# Altium integrated library Maxim Digital Potentiometers.IntLib: 1045 symbols (part 17 of 42)
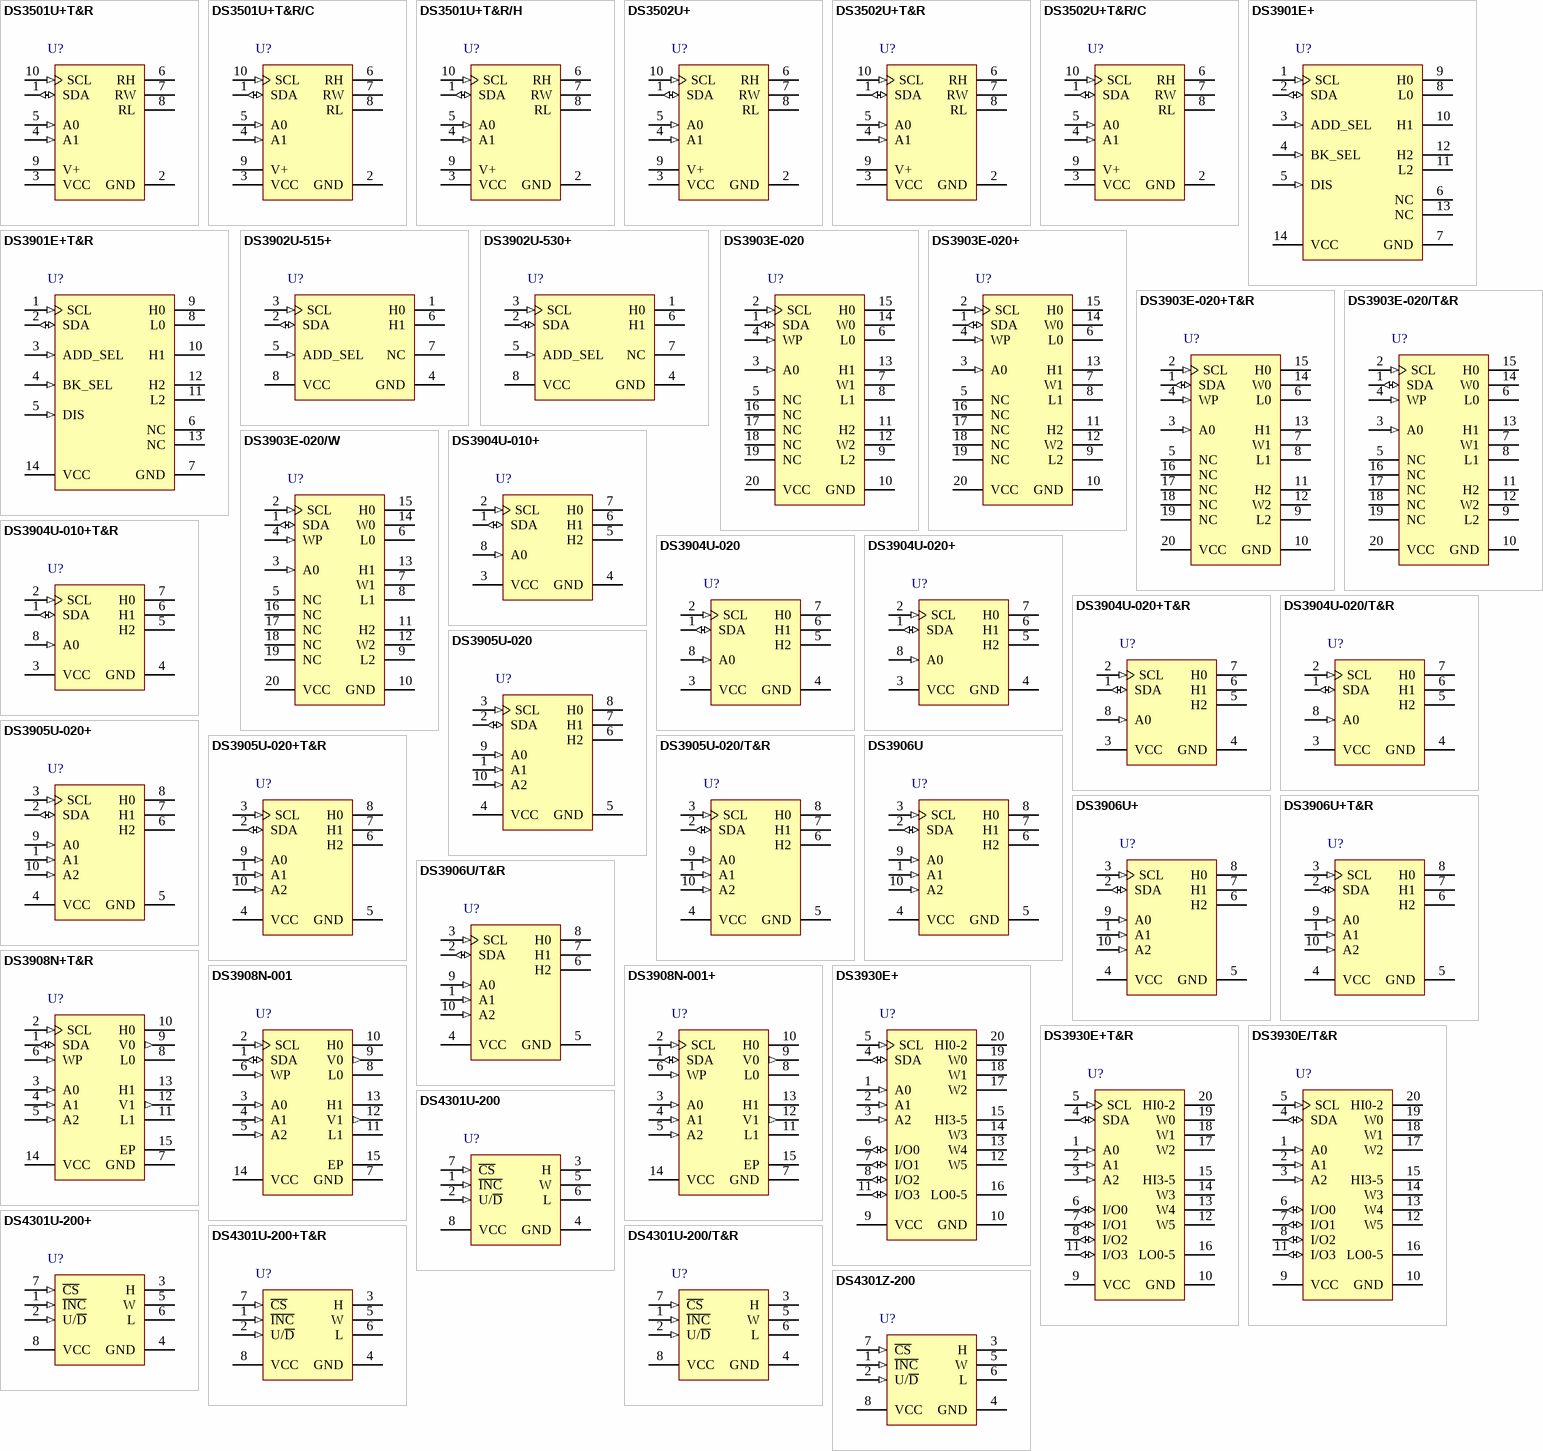
[diagram p45: symbols DS3501U+T&R to DS4301Z-200]

## DS4301U-200
designator U?
Digital Potentiometer with Up/Down Control Interface, Non-Volatile, Linear Taper, 32 Steps, -40 to 85 degC, 8-pin uMAX (U8-1); PartNumber: DS4301U-200; DatasheetVersion: Rev. 0; PackageVersion: Rev. L, 08/2009; PackageReference: U8-1; PackageDescription: 8-Pin Micro-MAX, Thin Shrink Small-Outline (U8-1), Body 3 x 3 mm, Pitch 0.65mm; Supplier 1: Digi-Key; Supplier Part Number 1: DS4301U-200-ND; Supplier 2: Mouser; Supplier Part Number 2: N/A; Control Interface: Up/Down; Features: EEPROM Wiper Memory; Mounting Technology: Surface Mount; Code_JEDEC: MO-187; ComponentLink1Description: Manufacturer URL; ComponentLink1URL: http://www.maximintegrated.com/; ComponentLink2Description: Datasheet; ComponentLink2URL: http://datasheets.maximintegrated.com/en/ds/DS4301.pdf; ComponentLink3Description: Package Specification; ComponentLink3URL: http://pdfserv.maximintegrated.com/package_dwgs/21-0036.PDF
footprint MAXM-U8-1_N (SOP, 8-Leads, Body 3x3mm, Pitch 0.65mm, IPC Medium Density)
footprint MAXM-U8-1_L (SOP, 8-Leads, Body 3x3mm, Pitch 0.65mm, IPC High Density)
footprint MAXM-U8-1_M (SOP, 8-Leads, Body 3x3mm, Pitch 0.65mm, IPC Low Density)
pins: 1 ~{INC} (in) "Increment/Decrement Wiper Control", 2 U/~{D} (in) "Up/Down Control", 3 H "High-Terminal of Potentiometer", 4 GND (power) "Ground", 5 W "Wiper of Potentiometer", 6 L "Low-Terminal of Potentiometer", 7 ~{CS} (in) "Chip Select", 8 VCC (power) "3V or 5V Power Supply"

## DS4301U-200+
designator U?
Digital Potentiometer with Up/Down Control Interface, Non-Volatile, Linear Taper, 32 Steps, -40 to 85 degC, 8-pin uMAX (U8+1), Pb-Free; PartNumber: DS4301U-200+; DatasheetVersion: Rev. 0; PackageVersion: Rev. L, 08/2009; PackageReference: U8+1; PackageDescription: 8-Pin Micro-MAX, Thin Shrink Small-Outline (U8+1), Body 3 x 3 mm, Pitch 0.65 mm; Supplier 1: Digi-Key; Supplier Part Number 1: DS4301U-200+-ND; Supplier 2: Mouser; Supplier Part Number 2: 700-DS4301U-200; Control Interface: Up/Down; Features: EEPROM Wiper Memory; Mounting Technology: Surface Mount; Code_JEDEC: MO-187; ComponentLink1Description: Manufacturer URL; ComponentLink1URL: http://www.maximintegrated.com/; ComponentLink2Description: Datasheet; ComponentLink2URL: http://datasheets.maximintegrated.com/en/ds/DS4301.pdf; ComponentLink3Description: Package Specification; ComponentLink3URL: http://pdfserv.maximintegrated.com/package_dwgs/21-0036.PDF
footprint MAXM-U8+1_N (SOP, 8-Leads, Body 3x3mm, Pitch 0.65mm, IPC Medium Density)
footprint MAXM-U8+1_L (SOP, 8-Leads, Body 3x3mm, Pitch 0.65mm, IPC High Density)
footprint MAXM-U8+1_M (SOP, 8-Leads, Body 3x3mm, Pitch 0.65mm, IPC Low Density)
pins: 1 ~{INC} (in) "Increment/Decrement Wiper Control", 2 U/~{D} (in) "Up/Down Control", 3 H "High-Terminal of Potentiometer", 4 GND (power) "Ground", 5 W "Wiper of Potentiometer", 6 L "Low-Terminal of Potentiometer", 7 ~{CS} (in) "Chip Select", 8 VCC (power) "3V or 5V Power Supply"

## DS4301U-200+T&R
designator U?
Digital Potentiometer with Up/Down Control Interface, Non-Volatile, Linear Taper, 32 Steps, -40 to 85 degC, 8-pin uMAX (U8+1), Pb-Free, Tape and Reel; PartNumber: DS4301U-200+T&R; DatasheetVersion: Rev. 0; PackageVersion: Rev. L, 08/2009; PackageReference: U8+1; PackageDescription: 8-Pin Micro-MAX, Thin Shrink Small-Outline (U8+1), Body 3 x 3 mm, Pitch 0.65 mm; Supplier 1: Digi-Key; Supplier Part Number 1: DS4301U-200+T&R-ND; Supplier 2: Mouser; Supplier Part Number 2: 700-DS4301U-200T&R; Control Interface: Up/Down; Features: EEPROM Wiper Memory; Mounting Technology: Surface Mount; Code_JEDEC: MO-187; ComponentLink1Description: Manufacturer URL; ComponentLink1URL: http://www.maximintegrated.com/; ComponentLink2Description: Datasheet; ComponentLink2URL: http://datasheets.maximintegrated.com/en/ds/DS4301.pdf; ComponentLink3Description: Package Specification; ComponentLink3URL: http://pdfserv.maximintegrated.com/package_dwgs/21-0036.PDF
footprint MAXM-U8+1_N (SOP, 8-Leads, Body 3x3mm, Pitch 0.65mm, IPC Medium Density)
footprint MAXM-U8+1_L (SOP, 8-Leads, Body 3x3mm, Pitch 0.65mm, IPC High Density)
footprint MAXM-U8+1_M (SOP, 8-Leads, Body 3x3mm, Pitch 0.65mm, IPC Low Density)
pins: 1 ~{INC} (in) "Increment/Decrement Wiper Control", 2 U/~{D} (in) "Up/Down Control", 3 H "High-Terminal of Potentiometer", 4 GND (power) "Ground", 5 W "Wiper of Potentiometer", 6 L "Low-Terminal of Potentiometer", 7 ~{CS} (in) "Chip Select", 8 VCC (power) "3V or 5V Power Supply"

## DS4301U-200/T&R
designator U?
Digital Potentiometer with Up/Down Control Interface, Non-Volatile, Linear Taper, 32 Steps, -40 to 85 degC, 8-pin uMAX (U8-1), Tape and Reel; PartNumber: DS4301U-200/T&R; DatasheetVersion: Rev. 0; PackageVersion: Rev. L, 08/2009; PackageReference: U8-1; PackageDescription: 8-Pin Micro-MAX, Thin Shrink Small-Outline (U8-1), Body 3 x 3 mm, Pitch 0.65mm; Supplier 1: Digi-Key; Supplier Part Number 1: DS4301U-200/T&R-ND; Supplier 2: Mouser; Supplier Part Number 2: N/A; Control Interface: Up/Down; Features: EEPROM Wiper Memory; Mounting Technology: Surface Mount; Code_JEDEC: MO-187; ComponentLink1Description: Manufacturer URL; ComponentLink1URL: http://www.maximintegrated.com/; ComponentLink2Description: Datasheet; ComponentLink2URL: http://datasheets.maximintegrated.com/en/ds/DS4301.pdf; ComponentLink3Description: Package Specification; ComponentLink3URL: http://pdfserv.maximintegrated.com/package_dwgs/21-0036.PDF
footprint MAXM-U8-1_N (SOP, 8-Leads, Body 3x3mm, Pitch 0.65mm, IPC Medium Density)
footprint MAXM-U8-1_L (SOP, 8-Leads, Body 3x3mm, Pitch 0.65mm, IPC High Density)
footprint MAXM-U8-1_M (SOP, 8-Leads, Body 3x3mm, Pitch 0.65mm, IPC Low Density)
pins: 1 ~{INC} (in) "Increment/Decrement Wiper Control", 2 U/~{D} (in) "Up/Down Control", 3 H "High-Terminal of Potentiometer", 4 GND (power) "Ground", 5 W "Wiper of Potentiometer", 6 L "Low-Terminal of Potentiometer", 7 ~{CS} (in) "Chip Select", 8 VCC (power) "3V or 5V Power Supply"

## DS4301Z-200
designator U?
Digital Potentiometer with Up/Down Control Interface, Non-Volatile, Linear Taper, 32 Steps, -40 to 85 degC, 8-pin SOIC (S8-2); PartNumber: DS4301Z-200; DatasheetVersion: Rev. 0; PackageVersion: Rev. D, 10/2012; PackageReference: S8-2; PackageDescription: 8-Pin Small-Outline IC, Narrow (0.15in) (S8-2), Body 4.90 x 3.90 mm, Pitch 1.27 mm; Supplier 1: Digi-Key; Supplier Part Number 1: DS4301Z-200-ND; Supplier 2: Mouser; Supplier Part Number 2: N/A; Control Interface: Up/Down; Features: EEPROM Wiper Memory; Mounting Technology: Surface Mount; Code_JEDEC: MS012; ComponentLink1Description: Manufacturer URL; ComponentLink1URL: http://www.maximintegrated.com/; ComponentLink2Description: Datasheet; ComponentLink2URL: http://datasheets.maximintegrated.com/en/ds/DS4301.pdf; ComponentLink3Description: Package Specification; ComponentLink3URL: http://pdfserv.maximintegrated.com/package_dwgs/21-0041.PDF
footprint MAXM-S8-2_N (SOIC, 8-Leads, Body 4.90x3.90mm, Pitch 1.27mm, IPC Medium Density)
footprint MAXM-S8-2_L (SOIC, 8-Leads, Body 4.90x3.90mm, Pitch 1.27mm, IPC High Density)
footprint MAXM-S8-2_M (SOIC, 8-Leads, Body 4.90x3.90mm, Pitch 1.27mm, IPC Low Density)
pins: 1 ~{INC} (in) "Increment/Decrement Wiper Control", 2 U/~{D} (in) "Up/Down Control", 3 H "High-Terminal of Potentiometer", 4 GND (power) "Ground", 5 W "Wiper of Potentiometer", 6 L "Low-Terminal of Potentiometer", 7 ~{CS} (in) "Chip Select", 8 VCC (power) "3V or 5V Power Supply"

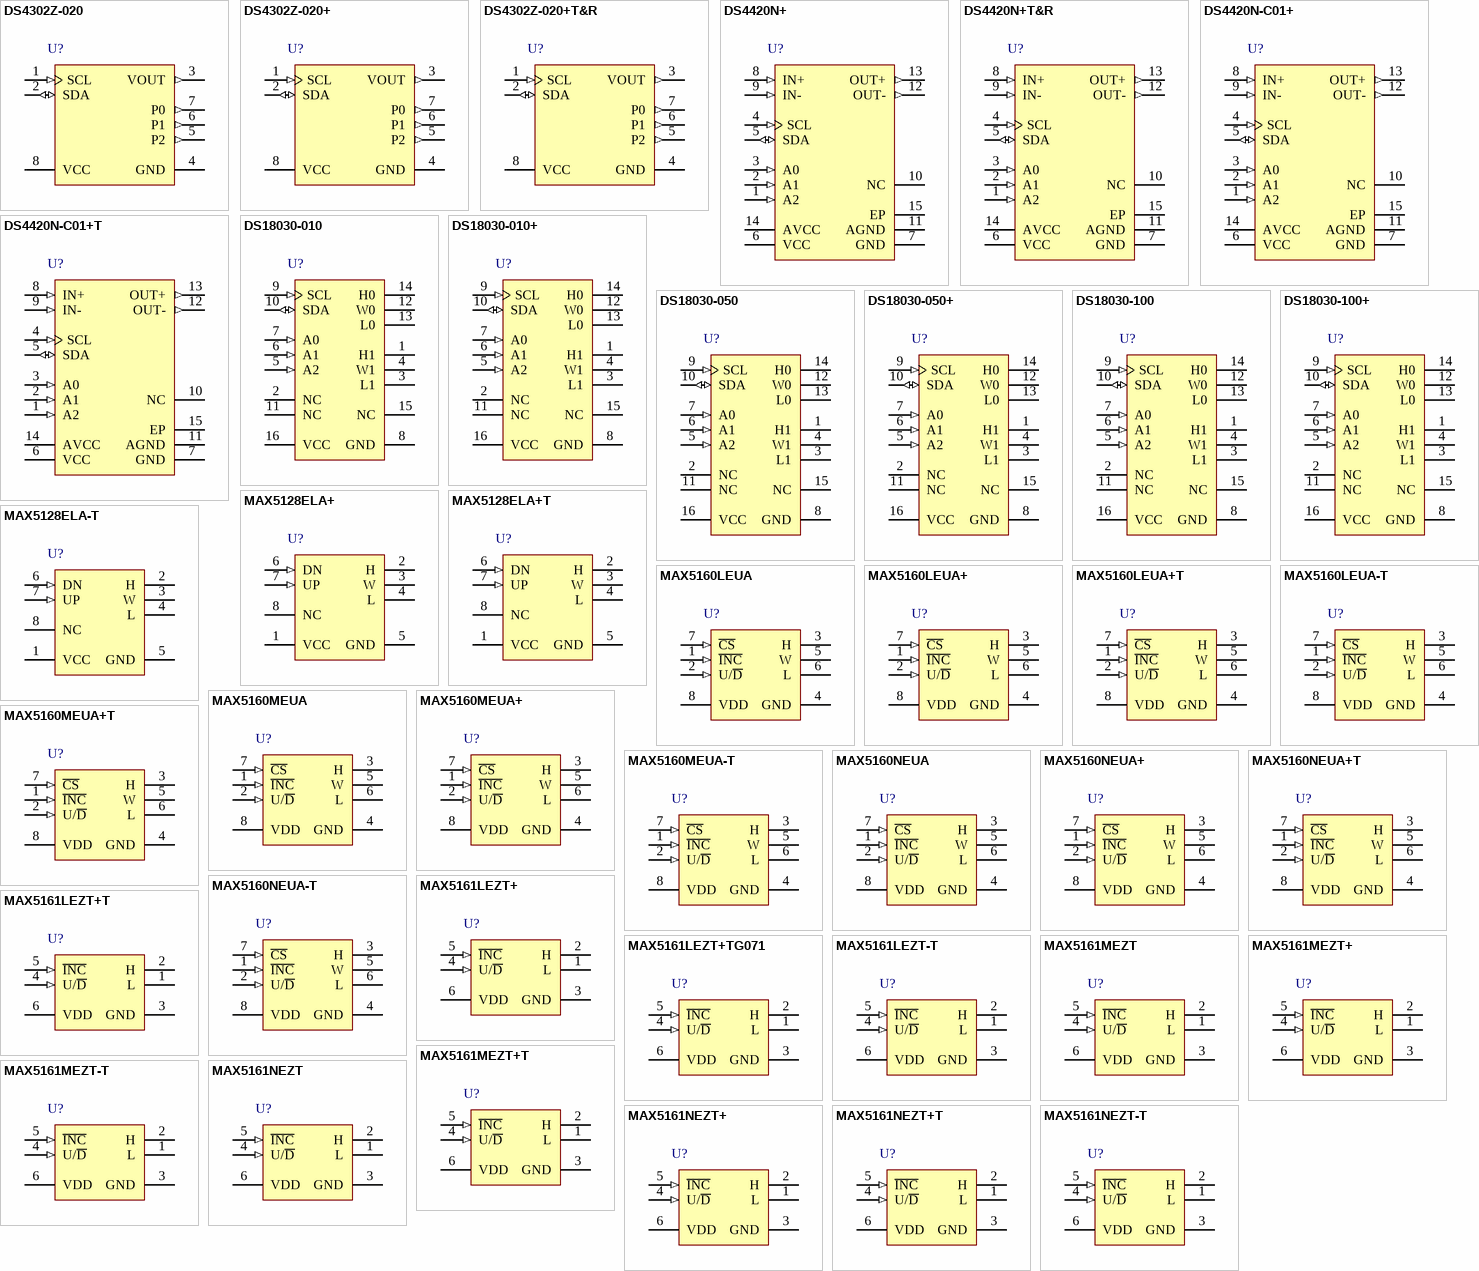
[diagram p12: symbols DS4302Z-020 to MAX5161NEZT-T]

## DS4302Z-020
designator U?
5-Bit DAC with Three Programmable Digital Outputs with 2-Wire Serial Control Interface, Volatile, Linear Taper, 32 Steps, -40 to 85 degC, 8-pin SOIC (S8-2); PartNumber: DS4302Z-020; DatasheetVersion: Rev. 1; PackageVersion: Rev. D, 10/2012; PackageReference: S8-2; PackageDescription: 8-Pin Small-Outline IC, Narrow (0.15in) (S8-2), Body 4.90 x 3.90 mm, Pitch 1.27 mm; Supplier 1: Digi-Key; Supplier Part Number 1: DS4302Z-020-ND; Control Interface: 2-Wire Serial; Features: Three Programmable Digital Outputs; Mounting Technology: Surface Mount; Code_JEDEC: MS012; ComponentLink1Description: Manufacturer URL; ComponentLink1URL: http://www.maximintegrated.com/; ComponentLink2Description: Datasheet; ComponentLink2URL: http://datasheets.maximintegrated.com/en/ds/DS4302.pdf; ComponentLink3Description: Package Specification; ComponentLink3URL: http://pdfserv.maximintegrated.com/package_dwgs/21-0041.PDF
footprint MAXM-S8-2_N (SOIC, 8-Leads, Body 4.90x3.90mm, Pitch 1.27mm, IPC Medium Density)
footprint MAXM-S8-2_L (SOIC, 8-Leads, Body 4.90x3.90mm, Pitch 1.27mm, IPC High Density)
footprint MAXM-S8-2_M (SOIC, 8-Leads, Body 4.90x3.90mm, Pitch 1.27mm, IPC Low Density)
pins: 1 SCL (in) "Serial Clock Input. 2-wire clock input.", 2 SDA (io) "Serial Data Input/Output. Bidirectional,2-wire data pin.", 3 VOUT (out) "DAC Output Voltage", 4 GND (power) "Ground", 5 P2 (out) "Programmable Digital Output", 6 P1 (out) "Programmable Digital Output", 7 P0 (out) "Programmable Digital Output", 8 VCC (power) "Power-Supply Input"

## DS4302Z-020+
designator U?
5-Bit DAC with Three Programmable Digital Outputs with 2-Wire Serial Control Interface, Volatile, Linear Taper, 32 Steps, -40 to 85 degC, 8-pin SOIC (S8+2), Pb-Free; PartNumber: DS4302Z-020+; DatasheetVersion: Rev. 1; PackageVersion: Rev. D, 10/2012; PackageReference: S8+2; PackageDescription: 8-Pin Small-Outline IC, Narrow (0.15in) (S8+2), Body 4.90 x 3.90 mm, Pitch 1.27 mm; Supplier 1: Digi-Key; Supplier Part Number 1: DS4302Z-020+-ND; Supplier 2: Mouser; Supplier Part Number 2: 700-DS4302Z-020; Control Interface: 2-Wire Serial; Features: Three Programmable Digital Outputs; Mounting Technology: Surface Mount; Code_JEDEC: MS012; ComponentLink1Description: Manufacturer URL; ComponentLink1URL: http://www.maximintegrated.com/; ComponentLink2Description: Datasheet; ComponentLink2URL: http://datasheets.maximintegrated.com/en/ds/DS4302.pdf; ComponentLink3Description: Package Specification; ComponentLink3URL: http://pdfserv.maximintegrated.com/package_dwgs/21-0041.PDF
footprint MAXM-S8+2_N (SOIC, 8-Leads, Body 4.90x3.90mm, Pitch 1.27mm, IPC Medium Density)
footprint MAXM-S8+2_L (SOIC, 8-Leads, Body 4.90x3.90mm, Pitch 1.27mm, IPC High Density)
footprint MAXM-S8+2_M (SOIC, 8-Leads, Body 4.90x3.90mm, Pitch 1.27mm, IPC Low Density)
pins: 1 SCL (in) "Serial Clock Input. 2-wire clock input.", 2 SDA (io) "Serial Data Input/Output. Bidirectional,2-wire data pin.", 3 VOUT (out) "DAC Output Voltage", 4 GND (power) "Ground", 5 P2 (out) "Programmable Digital Output", 6 P1 (out) "Programmable Digital Output", 7 P0 (out) "Programmable Digital Output", 8 VCC (power) "Power-Supply Input"

## DS4302Z-020+T&R
designator U?
5-Bit DAC with Three Programmable Digital Outputs with 2-Wire Serial Control Interface, Volatile, Linear Taper, 32 Steps, -40 to 85 degC, 8-pin SOIC (S8+2), Pb-Free, Tape and Reel; PartNumber: DS4302Z-020+T&R; DatasheetVersion: Rev. 1; PackageVersion: Rev. D, 10/2012; PackageReference: S8+2; PackageDescription: 8-Pin Small-Outline IC, Narrow (0.15in) (S8+2), Body 4.90 x 3.90 mm, Pitch 1.27 mm; Supplier 1: Digi-Key; Supplier Part Number 1: DS4302Z-020+T&R-ND; Supplier 2: Mouser; Supplier Part Number 2: 700-DS4302Z-020T&R; Control Interface: 2-Wire Serial; Features: Three Programmable Digital Outputs; Mounting Technology: Surface Mount; Code_JEDEC: MS012; ComponentLink1Description: Manufacturer URL; ComponentLink1URL: http://www.maximintegrated.com/; ComponentLink2Description: Datasheet; ComponentLink2URL: http://datasheets.maximintegrated.com/en/ds/DS4302.pdf; ComponentLink3Description: Package Specification; ComponentLink3URL: http://pdfserv.maximintegrated.com/package_dwgs/21-0041.PDF
footprint MAXM-S8+2_N (SOIC, 8-Leads, Body 4.90x3.90mm, Pitch 1.27mm, IPC Medium Density)
footprint MAXM-S8+2_L (SOIC, 8-Leads, Body 4.90x3.90mm, Pitch 1.27mm, IPC High Density)
footprint MAXM-S8+2_M (SOIC, 8-Leads, Body 4.90x3.90mm, Pitch 1.27mm, IPC Low Density)
pins: 1 SCL (in) "Serial Clock Input. 2-wire clock input.", 2 SDA (io) "Serial Data Input/Output. Bidirectional,2-wire data pin.", 3 VOUT (out) "DAC Output Voltage", 4 GND (power) "Ground", 5 P2 (out) "Programmable Digital Output", 6 P1 (out) "Programmable Digital Output", 7 P0 (out) "Programmable Digital Output", 8 VCC (power) "Power-Supply Input"

## DS4420N+
designator U?
I2C Programmable Gain Amplifier for Audio Applications with 2-Wire Addressable Control Interface, Volatile, Log Taper, 20 Steps, -40 to 85 degC, 14-pin TDFN-EP (T1433+1), Pb-Free; PartNumber: DS4420N+; DatasheetVersion: Rev. 0; PackageVersion: Rev. J, 08/2009; PackageReference: T1433+1; PackageDescription: 14-Pin Plastic Very Very Thin Dual Flatpack No Leads, Exposed Pad (T1433+1), Body 3 x 3mm, Pitch 0.4 mm; Supplier 1: Digi-Key; Supplier Part Number 1: DS4420N+-ND; Supplier 2: Mouser; Supplier Part Number 2: 700-DS4420N; Applications: Microphone Gain Control, Telephone Headsets; Control Interface: 2-Wire Addressable; Features: Adjustable Gain, Differential Inputs and Outputs ,Low Distortion Driving into a 50ohm Load ,Low Output Noise; Mounting Technology: Surface Mount; Code_JEDEC: MO229; ComponentLink1Description: Manufacturer URL; ComponentLink1URL: http://www.maximintegrated.com/; ComponentLink2Description: Datasheet; ComponentLink2URL: http://datasheets.maximintegrated.com/en/ds/DS4420.pdf; ComponentLink3Description: Package Specification; ComponentLink3URL: http://pdfserv.maximintegrated.com/package_dwgs/21-0137.PDF
footprint MAXM-T1433+1_V (SON, 14-Leads, Body 3x3mm, Pitch 0.4mm, Thermal Pad 2.35x1.78mm)
pins: 1 A2 (in) "Address Select Inputs-Determine I2C Slave Address. Device address is 1010A2A1A0.", 2 A1 (in) "Address Select Inputs-Determine I2C Slave Address. Device address is 1010A2A1A0.", 3 A0 (in) "Address Select Inputs-Determine I2C Slave Address. Device address is 1010A2A1A0.", 4 SCL (in) "I2C Serial Clock-Input for I2C Clock", 5 SDA (io) "I2C Serial Data-Input/Output for I2C Data", 6 VCC (power) "Digital Power-Supply Terminal", 7 GND (power) "Ground", 8 IN+ (in) "Differential Audio Input Signal", 9 IN- (in) "Differential Audio Input Signal", 10 NC "No Connection", 11 AGND (power) "Analog Ground (Must be Connected to GND)", 12 OUT- (out) "Differential Audio Output Signal", 13 OUT+ (out) "Differential Audio Output Signal", 14 AVCC (power) "Analog Power Supply (Must be Connected to VCC)", 15 EP (power) "Exposed Paddle. Connect to GND and AGND."

## DS4420N+T&R
designator U?
I2C Programmable Gain Amplifier for Audio Applications with 2-Wire Addressable Control Interface, Volatile, Log Taper, 20 Steps, -40 to 85 degC, 14-pin TDFN-EP (T1433+1), Pb-Free, Tape and Reel; PartNumber: DS4420N+T&R; DatasheetVersion: Rev. 0; PackageVersion: Rev. J, 08/2009; PackageReference: T1433+1; PackageDescription: 14-Pin Plastic Very Very Thin Dual Flatpack No Leads, Exposed Pad (T1433+1), Body 3 x 3mm, Pitch 0.4 mm; Supplier 1: Digi-Key; Supplier Part Number 1: DS4420N+T&R-ND; Supplier 2: Mouser; Supplier Part Number 2: 700-DS4420N+T&R; Applications: Microphone Gain Control, Telephone Headsets; Control Interface: 2-Wire Addressable; Features: Adjustable Gain, Differential Inputs and Outputs ,Low Distortion Driving into a 50ohm Load ,Low Output Noise; Mounting Technology: Surface Mount; Code_JEDEC: MO229; ComponentLink1Description: Manufacturer URL; ComponentLink1URL: http://www.maximintegrated.com/; ComponentLink2Description: Datasheet; ComponentLink2URL: http://datasheets.maximintegrated.com/en/ds/DS4420.pdf; ComponentLink3Description: Package Specification; ComponentLink3URL: http://pdfserv.maximintegrated.com/package_dwgs/21-0137.PDF
footprint MAXM-T1433+1_V (SON, 14-Leads, Body 3x3mm, Pitch 0.4mm, Thermal Pad 2.35x1.78mm)
pins: 1 A2 (in) "Address Select Inputs-Determine I2C Slave Address. Device address is 1010A2A1A0.", 2 A1 (in) "Address Select Inputs-Determine I2C Slave Address. Device address is 1010A2A1A0.", 3 A0 (in) "Address Select Inputs-Determine I2C Slave Address. Device address is 1010A2A1A0.", 4 SCL (in) "I2C Serial Clock-Input for I2C Clock", 5 SDA (io) "I2C Serial Data-Input/Output for I2C Data", 6 VCC (power) "Digital Power-Supply Terminal", 7 GND (power) "Ground", 8 IN+ (in) "Differential Audio Input Signal", 9 IN- (in) "Differential Audio Input Signal", 10 NC "No Connection", 11 AGND (power) "Analog Ground (Must be Connected to GND)", 12 OUT- (out) "Differential Audio Output Signal", 13 OUT+ (out) "Differential Audio Output Signal", 14 AVCC (power) "Analog Power Supply (Must be Connected to VCC)", 15 EP (power) "Exposed Paddle. Connect to GND and AGND."

## DS4420N-C01+
designator U?
I2C Programmable Gain Amplifier for Audio Applications with 2-Wire Addressable Control Interface, Volatile, Log Taper, 20 Steps, -40 to 85 degC, 14-pin TDFN-EP (T1433+1), Pb-Free; PartNumber: DS4420N-C01+; DatasheetVersion: Rev. 0; PackageVersion: Rev. J, 08/2009; PackageReference: T1433+1; PackageDescription: 14-Pin Plastic Very Very Thin Dual Flatpack No Leads, Exposed Pad (T1433+1), Body 3 x 3mm, Pitch 0.4 mm; Supplier 1: Mouser; Supplier Part Number 1: N/A; Applications: Microphone Gain Control, Telephone Headsets; Control Interface: 2-Wire Addressable; Features: Adjustable Gain, Differential Inputs and Outputs ,Low Distortion Driving into a 50ohm Load ,Low Output Noise; Mounting Technology: Surface Mount; Code_JEDEC: MO229; ComponentLink1Description: Manufacturer URL; ComponentLink1URL: http://www.maximintegrated.com/; ComponentLink2Description: Datasheet; ComponentLink2URL: http://datasheets.maximintegrated.com/en/ds/DS4420.pdf; ComponentLink3Description: Package Specification; ComponentLink3URL: http://pdfserv.maximintegrated.com/package_dwgs/21-0137.PDF
footprint MAXM-T1433+1_V (SON, 14-Leads, Body 3x3mm, Pitch 0.4mm, Thermal Pad 2.35x1.78mm)
pins: 1 A2 (in) "Address Select Inputs-Determine I2C Slave Address. Device address is 1010A2A1A0.", 2 A1 (in) "Address Select Inputs-Determine I2C Slave Address. Device address is 1010A2A1A0.", 3 A0 (in) "Address Select Inputs-Determine I2C Slave Address. Device address is 1010A2A1A0.", 4 SCL (in) "I2C Serial Clock-Input for I2C Clock", 5 SDA (io) "I2C Serial Data-Input/Output for I2C Data", 6 VCC (power) "Digital Power-Supply Terminal", 7 GND (power) "Ground", 8 IN+ (in) "Differential Audio Input Signal", 9 IN- (in) "Differential Audio Input Signal", 10 NC "No Connection", 11 AGND (power) "Analog Ground (Must be Connected to GND)", 12 OUT- (out) "Differential Audio Output Signal", 13 OUT+ (out) "Differential Audio Output Signal", 14 AVCC (power) "Analog Power Supply (Must be Connected to VCC)", 15 EP (power) "Exposed Paddle. Connect to GND and AGND."

## DS4420N-C01+T
designator U?
I2C Programmable Gain Amplifier for Audio Applications with 2-Wire Addressable Control Interface, Volatile, Log Taper, 20 Steps, -40 to 85 degC, 14-pin TDFN-EP (T1433+1), Pb-Free, Tape and Reel; PartNumber: DS4420N-C01+T; DatasheetVersion: Rev. 0; PackageVersion: Rev. J, 08/2009; PackageReference: T1433+1; PackageDescription: 14-Pin Plastic Very Very Thin Dual Flatpack No Leads, Exposed Pad (T1433+1), Body 3 x 3mm, Pitch 0.4 mm; Supplier 1: Mouser; Supplier Part Number 1: N/A; Applications: Microphone Gain Control, Telephone Headsets; Control Interface: 2-Wire Addressable; Features: Adjustable Gain, Differential Inputs and Outputs ,Low Distortion Driving into a 50ohm Load ,Low Output Noise; Mounting Technology: Surface Mount; Code_JEDEC: MO229; ComponentLink1Description: Manufacturer URL; ComponentLink1URL: http://www.maximintegrated.com/; ComponentLink2Description: Datasheet; ComponentLink2URL: http://datasheets.maximintegrated.com/en/ds/DS4420.pdf; ComponentLink3Description: Package Specification; ComponentLink3URL: http://pdfserv.maximintegrated.com/package_dwgs/21-0137.PDF
footprint MAXM-T1433+1_V (SON, 14-Leads, Body 3x3mm, Pitch 0.4mm, Thermal Pad 2.35x1.78mm)
pins: 1 A2 (in) "Address Select Inputs-Determine I2C Slave Address. Device address is 1010A2A1A0.", 2 A1 (in) "Address Select Inputs-Determine I2C Slave Address. Device address is 1010A2A1A0.", 3 A0 (in) "Address Select Inputs-Determine I2C Slave Address. Device address is 1010A2A1A0.", 4 SCL (in) "I2C Serial Clock-Input for I2C Clock", 5 SDA (io) "I2C Serial Data-Input/Output for I2C Data", 6 VCC (power) "Digital Power-Supply Terminal", 7 GND (power) "Ground", 8 IN+ (in) "Differential Audio Input Signal", 9 IN- (in) "Differential Audio Input Signal", 10 NC "No Connection", 11 AGND (power) "Analog Ground (Must be Connected to GND)", 12 OUT- (out) "Differential Audio Output Signal", 13 OUT+ (out) "Differential Audio Output Signal", 14 AVCC (power) "Analog Power Supply (Must be Connected to VCC)", 15 EP (power) "Exposed Paddle. Connect to GND and AGND."

## DS18030-010
designator U?
Dual Digital Potentiometer with 2-Wire Addressable Control Interface, Volatile, Linear Taper, 256 Steps, -40 to 85 degC, 16-pin PDIP (P16-1); PartNumber: DS18030-010; DatasheetVersion: Rev. 3; PackageVersion: Rev. E, 04/2011; PackageReference: P16-1; PackageDescription: 16-Pin Plastic Dual-In-Line, Narrow (0.3in) (P16-1), Body 19.175 x 6.985 mm, Pitch 2.54 mm; Supplier 1: Digi-Key; Supplier Part Number 1: DS18030-010-ND; Supplier 2: Mouser; Supplier Part Number 2: N/A; Control Interface: 2-Wire Addressable; Mounting Technology: Through Hole; Code_JEDEC: MS001-XX; ComponentLink1Description: Manufacturer URL; ComponentLink1URL: http://www.maximintegrated.com/; ComponentLink2Description: Datasheet; ComponentLink2URL: http://datasheets.maximintegrated.com/en/ds/DS1803.pdf; ComponentLink3Description: Package Specification; ComponentLink3URL: http://pdfserv.maximintegrated.com/package_dwgs/21-0043.PDF
footprint MAXM-P16-1 (DIP, 16-Leads, Body 19.175x6.985mm, Pitch 2.54mm)
pins: 1 H1 "High End of Resistor", 2 NC "No Connection", 3 L1 "Low End of Resistor", 4 W1 "Wiper terminal of Resistor", 5 A2 (in) "Chip Select Inputs", 6 A1 (in) "Chip Select Inputs", 7 A0 (in) "Chip Select Inputs", 8 GND (power) "Ground", 9 SCL (in) "Serial Clock Input", 10 SDA (io) "Serial Data I/O", 11 NC "No Connection", 12 W0 "Wiper terminal of Resistor", 13 L0 "Low End of Resistor", 14 H0 "High End of Resistor", 15 NC "No Connection", 16 VCC (power) "3V/5V Power Supply Input"

## DS18030-010+
designator U?
Dual Digital Potentiometer with 2-Wire Addressable Control Interface, Volatile, Linear Taper, 256 Steps, -40 to 85 degC, 16-pin PDIP (P16+1), Pb-Free; PartNumber: DS18030-010+; DatasheetVersion: Rev. 3; PackageVersion: Rev. E, 04/2011; PackageReference: P16+1; PackageDescription: 16-Pin Plastic Dual-In-Line, Narrow (0.3in) (P16+1), Body 19.175 x 6.985 mm, Pitch 2.54 mm; Supplier 1: Digi-Key; Supplier Part Number 1: DS18030-010+-ND; Supplier 2: Farnell; Supplier Part Number 2: 1285411; Supplier 3: Newark; Supplier Part Number 3: 26R5798; Supplier 4: Mouser; Supplier Part Number 4: 700-DS18030-010; Control Interface: 2-Wire Addressable; Mounting Technology: Through Hole; Code_JEDEC: MS001-XX; ComponentLink1Description: Manufacturer URL; ComponentLink1URL: http://www.maximintegrated.com/; ComponentLink2Description: Datasheet; ComponentLink2URL: http://datasheets.maximintegrated.com/en/ds/DS1803.pdf; ComponentLink3Description: Package Specification; ComponentLink3URL: http://pdfserv.maximintegrated.com/package_dwgs/21-0043.PDF
footprint MAXM-P16+1 (DIP, 16-Leads, Body 19.175x6.985mm, Pitch 2.54mm)
pins: 1 H1 "High End of Resistor", 2 NC "No Connection", 3 L1 "Low End of Resistor", 4 W1 "Wiper terminal of Resistor", 5 A2 (in) "Chip Select Inputs", 6 A1 (in) "Chip Select Inputs", 7 A0 (in) "Chip Select Inputs", 8 GND (power) "Ground", 9 SCL (in) "Serial Clock Input", 10 SDA (io) "Serial Data I/O", 11 NC "No Connection", 12 W0 "Wiper terminal of Resistor", 13 L0 "Low End of Resistor", 14 H0 "High End of Resistor", 15 NC "No Connection", 16 VCC (power) "3V/5V Power Supply Input"

## DS18030-050
designator U?
Dual Digital Potentiometer with 2-Wire Addressable Control Interface, Volatile, Linear Taper, 256 Steps, -40 to 85 degC, 16-pin PDIP (P16-1); PartNumber: DS18030-050; DatasheetVersion: Rev. 3; PackageVersion: Rev. E, 04/2011; PackageReference: P16-1; PackageDescription: 16-Pin Plastic Dual-In-Line, Narrow (0.3in) (P16-1), Body 19.175 x 6.985 mm, Pitch 2.54 mm; Supplier 1: Digi-Key; Supplier Part Number 1: DS18030-050-ND; Supplier 2: Newark; Supplier Part Number 2: 74C2376; Supplier 3: Mouser; Supplier Part Number 3: N/A; Control Interface: 2-Wire Addressable; Mounting Technology: Through Hole; Code_JEDEC: MS001-XX; ComponentLink1Description: Manufacturer URL; ComponentLink1URL: http://www.maximintegrated.com/; ComponentLink2Description: Datasheet; ComponentLink2URL: http://datasheets.maximintegrated.com/en/ds/DS1803.pdf; ComponentLink3Description: Package Specification; ComponentLink3URL: http://pdfserv.maximintegrated.com/package_dwgs/21-0043.PDF
footprint MAXM-P16-1 (DIP, 16-Leads, Body 19.175x6.985mm, Pitch 2.54mm)
pins: 1 H1 "High End of Resistor", 2 NC "No Connection", 3 L1 "Low End of Resistor", 4 W1 "Wiper terminal of Resistor", 5 A2 (in) "Chip Select Inputs", 6 A1 (in) "Chip Select Inputs", 7 A0 (in) "Chip Select Inputs", 8 GND (power) "Ground", 9 SCL (in) "Serial Clock Input", 10 SDA (io) "Serial Data I/O", 11 NC "No Connection", 12 W0 "Wiper terminal of Resistor", 13 L0 "Low End of Resistor", 14 H0 "High End of Resistor", 15 NC "No Connection", 16 VCC (power) "3V/5V Power Supply Input"

## DS18030-050+
designator U?
Dual Digital Potentiometer with 2-Wire Addressable Control Interface, Volatile, Linear Taper, 256 Steps, -40 to 85 degC, 16-pin PDIP (P16+1), Pb-Free; PartNumber: DS18030-050+; DatasheetVersion: Rev. 3; PackageVersion: Rev. E, 04/2011; PackageReference: P16+1; PackageDescription: 16-Pin Plastic Dual-In-Line, Narrow (0.3in) (P16+1), Body 19.175 x 6.985 mm, Pitch 2.54 mm; Supplier 1: Digi-Key; Supplier Part Number 1: DS18030-050+-ND; Supplier 2: Farnell; Supplier Part Number 2: 1306348; Supplier 3: Mouser; Supplier Part Number 3: 700-DS18030-050; Control Interface: 2-Wire Addressable; Mounting Technology: Through Hole; Code_JEDEC: MS001-XX; ComponentLink1Description: Manufacturer URL; ComponentLink1URL: http://www.maximintegrated.com/; ComponentLink2Description: Datasheet; ComponentLink2URL: http://datasheets.maximintegrated.com/en/ds/DS1803.pdf; ComponentLink3Description: Package Specification; ComponentLink3URL: http://pdfserv.maximintegrated.com/package_dwgs/21-0043.PDF
footprint MAXM-P16+1 (DIP, 16-Leads, Body 19.175x6.985mm, Pitch 2.54mm)
pins: 1 H1 "High End of Resistor", 2 NC "No Connection", 3 L1 "Low End of Resistor", 4 W1 "Wiper terminal of Resistor", 5 A2 (in) "Chip Select Inputs", 6 A1 (in) "Chip Select Inputs", 7 A0 (in) "Chip Select Inputs", 8 GND (power) "Ground", 9 SCL (in) "Serial Clock Input", 10 SDA (io) "Serial Data I/O", 11 NC "No Connection", 12 W0 "Wiper terminal of Resistor", 13 L0 "Low End of Resistor", 14 H0 "High End of Resistor", 15 NC "No Connection", 16 VCC (power) "3V/5V Power Supply Input"

## DS18030-100
designator U?
Dual Digital Potentiometer with 2-Wire Addressable Control Interface, Volatile, Linear Taper, 256 Steps, -40 to 85 degC, 16-pin PDIP (P16-1); PartNumber: DS18030-100; DatasheetVersion: Rev. 3; PackageVersion: Rev. E, 04/2011; PackageReference: P16-1; PackageDescription: 16-Pin Plastic Dual-In-Line, Narrow (0.3in) (P16-1), Body 19.175 x 6.985 mm, Pitch 2.54 mm; Supplier 1: Digi-Key; Supplier Part Number 1: DS18030-100-ND; Supplier 2: Mouser; Supplier Part Number 2: N/A; Control Interface: 2-Wire Addressable; Mounting Technology: Through Hole; Code_JEDEC: MS001-XX; ComponentLink1Description: Manufacturer URL; ComponentLink1URL: http://www.maximintegrated.com/; ComponentLink2Description: Datasheet; ComponentLink2URL: http://datasheets.maximintegrated.com/en/ds/DS1803.pdf; ComponentLink3Description: Package Specification; ComponentLink3URL: http://pdfserv.maximintegrated.com/package_dwgs/21-0043.PDF
footprint MAXM-P16-1 (DIP, 16-Leads, Body 19.175x6.985mm, Pitch 2.54mm)
pins: 1 H1 "High End of Resistor", 2 NC "No Connection", 3 L1 "Low End of Resistor", 4 W1 "Wiper terminal of Resistor", 5 A2 (in) "Chip Select Inputs", 6 A1 (in) "Chip Select Inputs", 7 A0 (in) "Chip Select Inputs", 8 GND (power) "Ground", 9 SCL (in) "Serial Clock Input", 10 SDA (io) "Serial Data I/O", 11 NC "No Connection", 12 W0 "Wiper terminal of Resistor", 13 L0 "Low End of Resistor", 14 H0 "High End of Resistor", 15 NC "No Connection", 16 VCC (power) "3V/5V Power Supply Input"

## DS18030-100+
designator U?
Dual Digital Potentiometer with 2-Wire Addressable Control Interface, Volatile, Linear Taper, 256 Steps, -40 to 85 degC, 16-pin PDIP (P16+1), Pb-Free; PartNumber: DS18030-100+; DatasheetVersion: Rev. 3; PackageVersion: Rev. E, 04/2011; PackageReference: P16+1; PackageDescription: 16-Pin Plastic Dual-In-Line, Narrow (0.3in) (P16+1), Body 19.175 x 6.985 mm, Pitch 2.54 mm; Supplier 1: Digi-Key; Supplier Part Number 1: DS18030-100+-ND; Supplier 2: Mouser; Supplier Part Number 2: 700-DS18030-100; Control Interface: 2-Wire Addressable; Mounting Technology: Through Hole; Code_JEDEC: MS001-XX; ComponentLink1Description: Manufacturer URL; ComponentLink1URL: http://www.maximintegrated.com/; ComponentLink2Description: Datasheet; ComponentLink2URL: http://datasheets.maximintegrated.com/en/ds/DS1803.pdf; ComponentLink3Description: Package Specification; ComponentLink3URL: http://pdfserv.maximintegrated.com/package_dwgs/21-0043.PDF
footprint MAXM-P16+1 (DIP, 16-Leads, Body 19.175x6.985mm, Pitch 2.54mm)
pins: 1 H1 "High End of Resistor", 2 NC "No Connection", 3 L1 "Low End of Resistor", 4 W1 "Wiper terminal of Resistor", 5 A2 (in) "Chip Select Inputs", 6 A1 (in) "Chip Select Inputs", 7 A0 (in) "Chip Select Inputs", 8 GND (power) "Ground", 9 SCL (in) "Serial Clock Input", 10 SDA (io) "Serial Data I/O", 11 NC "No Connection", 12 W0 "Wiper terminal of Resistor", 13 L0 "Low End of Resistor", 14 H0 "High End of Resistor", 15 NC "No Connection", 16 VCC (power) "3V/5V Power Supply Input"

## MAX5128ELA+
designator U?
Digital Potentiometer in 2 mm x 2 mm with Up/Down Control Interface, Non-Volatile, Linear Taper, 128 Steps, -40 to 85 degC, 8-pin uDFN (L822+1), Pb-Free; PartNumber: MAX5128ELA+; DatasheetVersion: Rev. 2; PackageVersion: Rev. C, 09/2010; PackageReference: L822+1; PackageDescription: 8-Pin Micro Dual Flatpack No Lead (L822+1), Body 2 x 2 mm, Pitch 0.5 mm; Supplier 1: Mouser; Supplier Part Number 1: N/A; Applications: Bias Adjustment, Portable Consumer; Control Interface: Up/Down; Features: Custom Programmed Resistance Response, EEPROM Wiper Memory ,Low THD+N and Crosstalk; Mounting Technology: Surface Mount; Code_JEDEC: MO252; ComponentLink1Description: Manufacturer URL; ComponentLink1URL: http://www.maximintegrated.com/; ComponentLink2Description: Datasheet; ComponentLink2URL: http://datasheets.maximintegrated.com/en/ds/MAX5128.pdf; ComponentLink3Description: Package Specification; ComponentLink3URL: http://pdfserv.maximintegrated.com/package_dwgs/21-0164.PDF
footprint MAXM-L822+1_V (SON, 8-Leads, Body 2x2mm, Pitch 0.5mm)
pins: 1 VCC (power) "Power Supply. Bypass VCC with a 0.1uF capacitor to GND as close to the device as possible. For proper operation, limit the supply voltage slew rate to >= 10us.", 2 H "High Terminal. The voltage at H can be higher than or lower than the voltage at L. Current can flow into or out of H.", 3 W "Wiper Terminal", 4 L "Low Terminal. The voltage at L can be higher than or lower than the voltage at H. Current can flow into or out of L.", 5 GND (power) "Ground", 6 DN (in) "Down Input", 7 UP (in) "Up Input", 8 NC "No Connection. Not internally connected."

## MAX5128ELA+T
designator U?
Digital Potentiometer in 2 mm x 2 mm with Up/Down Control Interface, Non-Volatile, Linear Taper, 128 Steps, -40 to 85 degC, 8-pin uDFN (L822+1), Pb-Free, Tape and Reel; PartNumber: MAX5128ELA+T; DatasheetVersion: Rev. 2; PackageVersion: Rev. C, 09/2010; PackageReference: L822+1; PackageDescription: 8-Pin Micro Dual Flatpack No Lead (L822+1), Body 2 x 2 mm, Pitch 0.5 mm; Supplier 1: Digi-Key; Supplier Part Number 1: MAX5128ELA+TTR-ND; Supplier 2: Digi-Key; Supplier Part Number 2: MAX5128ELA+TCT-ND; Supplier 3: Digi-Key; Supplier Part Number 3: MAX5128ELA+TDKR-ND; Supplier 4: Mouser; Supplier Part Number 4: 700-MAX5128ELAT; Applications: Bias Adjustment, Portable Consumer; Control Interface: Up/Down; Features: Custom Programmed Resistance Response, EEPROM Wiper Memory ,Low THD+N and Crosstalk; Mounting Technology: Surface Mount; Code_JEDEC: MO252; ComponentLink1Description: Manufacturer URL; ComponentLink1URL: http://www.maximintegrated.com/; ComponentLink2Description: Datasheet; ComponentLink2URL: http://datasheets.maximintegrated.com/en/ds/MAX5128.pdf; ComponentLink3Description: Package Specification; ComponentLink3URL: http://pdfserv.maximintegrated.com/package_dwgs/21-0164.PDF
footprint MAXM-L822+1_V (SON, 8-Leads, Body 2x2mm, Pitch 0.5mm)
pins: 1 VCC (power) "Power Supply. Bypass VCC with a 0.1uF capacitor to GND as close to the device as possible. For proper operation, limit the supply voltage slew rate to >= 10us.", 2 H "High Terminal. The voltage at H can be higher than or lower than the voltage at L. Current can flow into or out of H.", 3 W "Wiper Terminal", 4 L "Low Terminal. The voltage at L can be higher than or lower than the voltage at H. Current can flow into or out of L.", 5 GND (power) "Ground", 6 DN (in) "Down Input", 7 UP (in) "Up Input", 8 NC "No Connection. Not internally connected."

## MAX5128ELA-T
designator U?
Digital Potentiometer in 2 mm x 2 mm with Up/Down Control Interface, Non-Volatile, Linear Taper, 128 Steps, -40 to 85 degC, 8-pin uDFN (L822+1), Tape and Reel; PartNumber: MAX5128ELA-T; DatasheetVersion: Rev. 2; PackageVersion: Rev. C, 09/2010; PackageReference: L822-1; PackageDescription: 8-Pin Micro Dual Flatpack No Lead (L822-1), Body 2 x 2 mm, Pitch 0.5 mm; Supplier 1: Mouser; Supplier Part Number 1: N/A; Applications: Bias Adjustment, Portable Consumer; Control Interface: Up/Down; Features: Custom Programmed Resistance Response, EEPROM Wiper Memory ,Low THD+N and Crosstalk; Mounting Technology: Surface Mount; Code_JEDEC: MO252; ComponentLink1Description: Manufacturer URL; ComponentLink1URL: http://www.maximintegrated.com/; ComponentLink2Description: Datasheet; ComponentLink2URL: http://datasheets.maximintegrated.com/en/ds/MAX5128.pdf; ComponentLink3Description: Package Specification; ComponentLink3URL: http://pdfserv.maximintegrated.com/package_dwgs/21-0164.PDF
footprint MAXM-L822-1_V (SON8, 8-Leads, Body 2x2mm, Pitch 0.5mm)
pins: 1 VCC (power) "Power Supply. Bypass VCC with a 0.1uF capacitor to GND as close to the device as possible. For proper operation, limit the supply voltage slew rate to >= 10us.", 2 H "High Terminal. The voltage at H can be higher than or lower than the voltage at L. Current can flow into or out of H.", 3 W "Wiper Terminal", 4 L "Low Terminal. The voltage at L can be higher than or lower than the voltage at H. Current can flow into or out of L.", 5 GND (power) "Ground", 6 DN (in) "Down Input", 7 UP (in) "Up Input", 8 NC "No Connection. Not internally connected."

## MAX5160LEUA
designator U?
Low-Power Digital Potentiometer with 3-Wire Serial Control Interface, Volatile, Linear Taper, 32 Steps, -40 to 85 degC, 8-pin uMAX (U8-1); PartNumber: MAX5160LEUA; DatasheetVersion: Rev. 2A; PackageVersion: Rev. L, 08/2009; PackageReference: U8-1; PackageDescription: 8-Pin Micro-MAX, Thin Shrink Small-Outline (U8-1), Body 3 x 3 mm, Pitch 0.65mm; Supplier 1: Digi-Key; Supplier Part Number 1: MAX5160LEUA-ND; Supplier 2: Mouser; Supplier Part Number 2: 700-MAX5160LEUA-NR; Control Interface: 3-Wire Serial; Mounting Technology: Surface Mount; Code_JEDEC: MO-187; ComponentLink1Description: Manufacturer URL; ComponentLink1URL: http://www.maximintegrated.com/; ComponentLink2Description: Datasheet; ComponentLink2URL: http://datasheets.maximintegrated.com/en/ds/MAX5160-MAX5161.pdf; ComponentLink3Description: Package Specification; ComponentLink3URL: http://pdfserv.maximintegrated.com/package_dwgs/21-0036.PDF
footprint MAXM-U8-1_N (SOP, 8-Leads, Body 3x3mm, Pitch 0.65mm, IPC Medium Density)
footprint MAXM-U8-1_L (SOP, 8-Leads, Body 3x3mm, Pitch 0.65mm, IPC High Density)
footprint MAXM-U8-1_M (SOP, 8-Leads, Body 3x3mm, Pitch 0.65mm, IPC Low Density)
pins: 1 ~{INC} (in) "Wiper Increment Control Input. With C\S\ low, a high-to-low transition increments (U/D\ high) or decrements (U/D\ low) the wiper position.", 2 U/~{D} (in) "Up/Down Control Input. With C\S\ low, a high-to-low I\N\C\ transition increments (U/D\ high) or decrements (U/D\ low) the wiper position.", 3 H "High Terminal of Resistor", 4 GND (power) "Ground", 5 W "Wiper Terminal of Resistor", 6 L "Low Terminal of Resistor.", 7 ~{CS} (in) "Chip-Select Input. Drive low to change wiper position through I\N\C\ and U/D\.", 8 VDD (power) "Power Supply."

## MAX5160LEUA+
designator U?
Low-Power Digital Potentiometer with 3-Wire Serial Control Interface, Volatile, Linear Taper, 32 Steps, -40 to 85 degC, 8-pin uMAX (U8+1), Pb-Free; PartNumber: MAX5160LEUA+; DatasheetVersion: Rev. 2A; PackageVersion: Rev. L, 08/2009; PackageReference: U8+1; PackageDescription: 8-Pin Micro-MAX, Thin Shrink Small-Outline (U8+1), Body 3 x 3 mm, Pitch 0.65 mm; Supplier 1: Digi-Key; Supplier Part Number 1: MAX5160LEUA+-ND; Supplier 2: Farnell; Supplier Part Number 2: 2072017; Supplier 3: Newark; Supplier Part Number 3: 82H4829; Supplier 4: Mouser; Supplier Part Number 4: 700-MAX5160LEUA; Control Interface: 3-Wire Serial; Mounting Technology: Surface Mount; Code_JEDEC: MO-187; ComponentLink1Description: Manufacturer URL; ComponentLink1URL: http://www.maximintegrated.com/; ComponentLink2Description: Datasheet; ComponentLink2URL: http://datasheets.maximintegrated.com/en/ds/MAX5160-MAX5161.pdf; ComponentLink3Description: Package Specification; ComponentLink3URL: http://pdfserv.maximintegrated.com/package_dwgs/21-0036.PDF
footprint MAXM-U8+1_N (SOP, 8-Leads, Body 3x3mm, Pitch 0.65mm, IPC Medium Density)
footprint MAXM-U8+1_L (SOP, 8-Leads, Body 3x3mm, Pitch 0.65mm, IPC High Density)
footprint MAXM-U8+1_M (SOP, 8-Leads, Body 3x3mm, Pitch 0.65mm, IPC Low Density)
pins: 1 ~{INC} (in) "Wiper Increment Control Input. With C\S\ low, a high-to-low transition increments (U/D\ high) or decrements (U/D\ low) the wiper position.", 2 U/~{D} (in) "Up/Down Control Input. With C\S\ low, a high-to-low I\N\C\ transition increments (U/D\ high) or decrements (U/D\ low) the wiper position.", 3 H "High Terminal of Resistor", 4 GND (power) "Ground", 5 W "Wiper Terminal of Resistor", 6 L "Low Terminal of Resistor.", 7 ~{CS} (in) "Chip-Select Input. Drive low to change wiper position through I\N\C\ and U/D\.", 8 VDD (power) "Power Supply."

## MAX5160LEUA+T
designator U?
Low-Power Digital Potentiometer with 3-Wire Serial Control Interface, Volatile, Linear Taper, 32 Steps, -40 to 85 degC, 8-pin uMAX (U8+1), Pb-Free, Tape and Reel; PartNumber: MAX5160LEUA+T; DatasheetVersion: Rev. 2A; PackageVersion: Rev. L, 08/2009; PackageReference: U8+1; PackageDescription: 8-Pin Micro-MAX, Thin Shrink Small-Outline (U8+1), Body 3 x 3 mm, Pitch 0.65 mm; Supplier 1: Digi-Key; Supplier Part Number 1: MAX5160LEUA+T-ND; Supplier 2: Mouser; Supplier Part Number 2: 700-MAX5160LEUAT; Control Interface: 3-Wire Serial; Mounting Technology: Surface Mount; Code_JEDEC: MO-187; ComponentLink1Description: Manufacturer URL; ComponentLink1URL: http://www.maximintegrated.com/; ComponentLink2Description: Datasheet; ComponentLink2URL: http://datasheets.maximintegrated.com/en/ds/MAX5160-MAX5161.pdf; ComponentLink3Description: Package Specification; ComponentLink3URL: http://pdfserv.maximintegrated.com/package_dwgs/21-0036.PDF
footprint MAXM-U8+1_N (SOP, 8-Leads, Body 3x3mm, Pitch 0.65mm, IPC Medium Density)
footprint MAXM-U8+1_L (SOP, 8-Leads, Body 3x3mm, Pitch 0.65mm, IPC High Density)
footprint MAXM-U8+1_M (SOP, 8-Leads, Body 3x3mm, Pitch 0.65mm, IPC Low Density)
pins: 1 ~{INC} (in) "Wiper Increment Control Input. With C\S\ low, a high-to-low transition increments (U/D\ high) or decrements (U/D\ low) the wiper position.", 2 U/~{D} (in) "Up/Down Control Input. With C\S\ low, a high-to-low I\N\C\ transition increments (U/D\ high) or decrements (U/D\ low) the wiper position.", 3 H "High Terminal of Resistor", 4 GND (power) "Ground", 5 W "Wiper Terminal of Resistor", 6 L "Low Terminal of Resistor.", 7 ~{CS} (in) "Chip-Select Input. Drive low to change wiper position through I\N\C\ and U/D\.", 8 VDD (power) "Power Supply."

## MAX5160LEUA-T
designator U?
Low-Power Digital Potentiometer with 3-Wire Serial Control Interface, Volatile, Linear Taper, 32 Steps, -40 to 85 degC, 8-pin uMAX (U8-1), Tape and Reel; PartNumber: MAX5160LEUA-T; DatasheetVersion: Rev. 2A; PackageVersion: Rev. L, 08/2009; PackageReference: U8-1; PackageDescription: 8-Pin Micro-MAX, Thin Shrink Small-Outline (U8-1), Body 3 x 3 mm, Pitch 0.65mm; Supplier 1: Mouser; Supplier Part Number 1: 700-MAX5160LEUA-T-NR; Control Interface: 3-Wire Serial; Mounting Technology: Surface Mount; Code_JEDEC: MO-187; ComponentLink1Description: Manufacturer URL; ComponentLink1URL: http://www.maximintegrated.com/; ComponentLink2Description: Datasheet; ComponentLink2URL: http://datasheets.maximintegrated.com/en/ds/MAX5160-MAX5161.pdf; ComponentLink3Description: Package Specification; ComponentLink3URL: http://pdfserv.maximintegrated.com/package_dwgs/21-0036.PDF
footprint MAXM-U8-1_N (SOP, 8-Leads, Body 3x3mm, Pitch 0.65mm, IPC Medium Density)
footprint MAXM-U8-1_L (SOP, 8-Leads, Body 3x3mm, Pitch 0.65mm, IPC High Density)
footprint MAXM-U8-1_M (SOP, 8-Leads, Body 3x3mm, Pitch 0.65mm, IPC Low Density)
pins: 1 ~{INC} (in) "Wiper Increment Control Input. With C\S\ low, a high-to-low transition increments (U/D\ high) or decrements (U/D\ low) the wiper position.", 2 U/~{D} (in) "Up/Down Control Input. With C\S\ low, a high-to-low I\N\C\ transition increments (U/D\ high) or decrements (U/D\ low) the wiper position.", 3 H "High Terminal of Resistor", 4 GND (power) "Ground", 5 W "Wiper Terminal of Resistor", 6 L "Low Terminal of Resistor.", 7 ~{CS} (in) "Chip-Select Input. Drive low to change wiper position through I\N\C\ and U/D\.", 8 VDD (power) "Power Supply."

## MAX5160MEUA
designator U?
Low-Power Digital Potentiometer with 3-Wire Serial Control Interface, Volatile, Linear Taper, 32 Steps, -40 to 85 degC, 8-pin uMAX (U8-1); PartNumber: MAX5160MEUA; DatasheetVersion: Rev. 2A; PackageVersion: Rev. L, 08/2009; PackageReference: U8-1; PackageDescription: 8-Pin Micro-MAX, Thin Shrink Small-Outline (U8-1), Body 3 x 3 mm, Pitch 0.65mm; Supplier 1: Mouser; Supplier Part Number 1: N/A; Control Interface: 3-Wire Serial; Mounting Technology: Surface Mount; Code_JEDEC: MO-187; ComponentLink1Description: Manufacturer URL; ComponentLink1URL: http://www.maximintegrated.com/; ComponentLink2Description: Datasheet; ComponentLink2URL: http://datasheets.maximintegrated.com/en/ds/MAX5160-MAX5161.pdf; ComponentLink3Description: Package Specification; ComponentLink3URL: http://pdfserv.maximintegrated.com/package_dwgs/21-0036.PDF
footprint MAXM-U8-1_N (SOP, 8-Leads, Body 3x3mm, Pitch 0.65mm, IPC Medium Density)
footprint MAXM-U8-1_L (SOP, 8-Leads, Body 3x3mm, Pitch 0.65mm, IPC High Density)
footprint MAXM-U8-1_M (SOP, 8-Leads, Body 3x3mm, Pitch 0.65mm, IPC Low Density)
pins: 1 ~{INC} (in) "Wiper Increment Control Input. With C\S\ low, a high-to-low transition increments (U/D\ high) or decrements (U/D\ low) the wiper position.", 2 U/~{D} (in) "Up/Down Control Input. With C\S\ low, a high-to-low I\N\C\ transition increments (U/D\ high) or decrements (U/D\ low) the wiper position.", 3 H "High Terminal of Resistor", 4 GND (power) "Ground", 5 W "Wiper Terminal of Resistor", 6 L "Low Terminal of Resistor.", 7 ~{CS} (in) "Chip-Select Input. Drive low to change wiper position through I\N\C\ and U/D\.", 8 VDD (power) "Power Supply."

## MAX5160MEUA+
designator U?
Low-Power Digital Potentiometer with 3-Wire Serial Control Interface, Volatile, Linear Taper, 32 Steps, -40 to 85 degC, 8-pin uMAX (U8+1), Pb-Free; PartNumber: MAX5160MEUA+; DatasheetVersion: Rev. 2A; PackageVersion: Rev. L, 08/2009; PackageReference: U8+1; PackageDescription: 8-Pin Micro-MAX, Thin Shrink Small-Outline (U8+1), Body 3 x 3 mm, Pitch 0.65 mm; Supplier 1: Digi-Key; Supplier Part Number 1: MAX5160MEUA+-ND; Supplier 2: Mouser; Supplier Part Number 2: 700-MAX5160MEUA; Control Interface: 3-Wire Serial; Mounting Technology: Surface Mount; Code_JEDEC: MO-187; ComponentLink1Description: Manufacturer URL; ComponentLink1URL: http://www.maximintegrated.com/; ComponentLink2Description: Datasheet; ComponentLink2URL: http://datasheets.maximintegrated.com/en/ds/MAX5160-MAX5161.pdf; ComponentLink3Description: Package Specification; ComponentLink3URL: http://pdfserv.maximintegrated.com/package_dwgs/21-0036.PDF
footprint MAXM-U8+1_N (SOP, 8-Leads, Body 3x3mm, Pitch 0.65mm, IPC Medium Density)
footprint MAXM-U8+1_L (SOP, 8-Leads, Body 3x3mm, Pitch 0.65mm, IPC High Density)
footprint MAXM-U8+1_M (SOP, 8-Leads, Body 3x3mm, Pitch 0.65mm, IPC Low Density)
pins: 1 ~{INC} (in) "Wiper Increment Control Input. With C\S\ low, a high-to-low transition increments (U/D\ high) or decrements (U/D\ low) the wiper position.", 2 U/~{D} (in) "Up/Down Control Input. With C\S\ low, a high-to-low I\N\C\ transition increments (U/D\ high) or decrements (U/D\ low) the wiper position.", 3 H "High Terminal of Resistor", 4 GND (power) "Ground", 5 W "Wiper Terminal of Resistor", 6 L "Low Terminal of Resistor.", 7 ~{CS} (in) "Chip-Select Input. Drive low to change wiper position through I\N\C\ and U/D\.", 8 VDD (power) "Power Supply."

## MAX5160MEUA+T
designator U?
Low-Power Digital Potentiometer with 3-Wire Serial Control Interface, Volatile, Linear Taper, 32 Steps, -40 to 85 degC, 8-pin uMAX (U8+1), Pb-Free, Tape and Reel; PartNumber: MAX5160MEUA+T; DatasheetVersion: Rev. 2A; PackageVersion: Rev. L, 08/2009; PackageReference: U8+1; PackageDescription: 8-Pin Micro-MAX, Thin Shrink Small-Outline (U8+1), Body 3 x 3 mm, Pitch 0.65 mm; Supplier 1: Digi-Key; Supplier Part Number 1: MAX5160MEUA+T-ND; Supplier 2: Mouser; Supplier Part Number 2: 700-MAX5160MEUAT; Control Interface: 3-Wire Serial; Mounting Technology: Surface Mount; Code_JEDEC: MO-187; ComponentLink1Description: Manufacturer URL; ComponentLink1URL: http://www.maximintegrated.com/; ComponentLink2Description: Datasheet; ComponentLink2URL: http://datasheets.maximintegrated.com/en/ds/MAX5160-MAX5161.pdf; ComponentLink3Description: Package Specification; ComponentLink3URL: http://pdfserv.maximintegrated.com/package_dwgs/21-0036.PDF
footprint MAXM-U8+1_N (SOP, 8-Leads, Body 3x3mm, Pitch 0.65mm, IPC Medium Density)
footprint MAXM-U8+1_L (SOP, 8-Leads, Body 3x3mm, Pitch 0.65mm, IPC High Density)
footprint MAXM-U8+1_M (SOP, 8-Leads, Body 3x3mm, Pitch 0.65mm, IPC Low Density)
pins: 1 ~{INC} (in) "Wiper Increment Control Input. With C\S\ low, a high-to-low transition increments (U/D\ high) or decrements (U/D\ low) the wiper position.", 2 U/~{D} (in) "Up/Down Control Input. With C\S\ low, a high-to-low I\N\C\ transition increments (U/D\ high) or decrements (U/D\ low) the wiper position.", 3 H "High Terminal of Resistor", 4 GND (power) "Ground", 5 W "Wiper Terminal of Resistor", 6 L "Low Terminal of Resistor.", 7 ~{CS} (in) "Chip-Select Input. Drive low to change wiper position through I\N\C\ and U/D\.", 8 VDD (power) "Power Supply."

## MAX5160MEUA-T
designator U?
Low-Power Digital Potentiometer with 3-Wire Serial Control Interface, Volatile, Linear Taper, 32 Steps, -40 to 85 degC, 8-pin uMAX (U8-1), Tape and Reel; PartNumber: MAX5160MEUA-T; DatasheetVersion: Rev. 2A; PackageVersion: Rev. L, 08/2009; PackageReference: U8-1; PackageDescription: 8-Pin Micro-MAX, Thin Shrink Small-Outline (U8-1), Body 3 x 3 mm, Pitch 0.65mm; Supplier 1: Mouser; Supplier Part Number 1: N/A; Control Interface: 3-Wire Serial; Mounting Technology: Surface Mount; Code_JEDEC: MO-187; ComponentLink1Description: Manufacturer URL; ComponentLink1URL: http://www.maximintegrated.com/; ComponentLink2Description: Datasheet; ComponentLink2URL: http://datasheets.maximintegrated.com/en/ds/MAX5160-MAX5161.pdf; ComponentLink3Description: Package Specification; ComponentLink3URL: http://pdfserv.maximintegrated.com/package_dwgs/21-0036.PDF
footprint MAXM-U8-1_N (SOP, 8-Leads, Body 3x3mm, Pitch 0.65mm, IPC Medium Density)
footprint MAXM-U8-1_L (SOP, 8-Leads, Body 3x3mm, Pitch 0.65mm, IPC High Density)
footprint MAXM-U8-1_M (SOP, 8-Leads, Body 3x3mm, Pitch 0.65mm, IPC Low Density)
pins: 1 ~{INC} (in) "Wiper Increment Control Input. With C\S\ low, a high-to-low transition increments (U/D\ high) or decrements (U/D\ low) the wiper position.", 2 U/~{D} (in) "Up/Down Control Input. With C\S\ low, a high-to-low I\N\C\ transition increments (U/D\ high) or decrements (U/D\ low) the wiper position.", 3 H "High Terminal of Resistor", 4 GND (power) "Ground", 5 W "Wiper Terminal of Resistor", 6 L "Low Terminal of Resistor.", 7 ~{CS} (in) "Chip-Select Input. Drive low to change wiper position through I\N\C\ and U/D\.", 8 VDD (power) "Power Supply."